# EAGLE library part ST1S14PHR (library wheat)
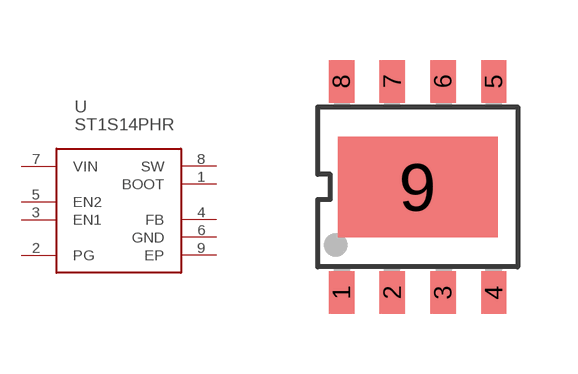
[diagram p188: symbol with the pads of HSOP8; footprint HSOP8]

Designator prefix U

## ST1S14PHR  [HSOP8]
1  BOOT  out
2  PG  in
3  EN1  in
4  FB  in
5  EN2  in
6  GND  pas
7  VIN  in
8  SW  pas
9  EP  pas

## Footprint HSOP8 (pad centres in mm)
smd 0.635 x 1.067: 1 -1.905,-2.64; 2 -0.635,-2.64; 3 0.635,-2.64; 4 1.905,-2.64; 5 1.905,2.64; 6 0.635,2.64; 7 -0.635,2.64; 8 -1.905,2.64
smd 4 x 2.51: 9 0,0